# EAGLE library part LPR9201 (library custom-devices)
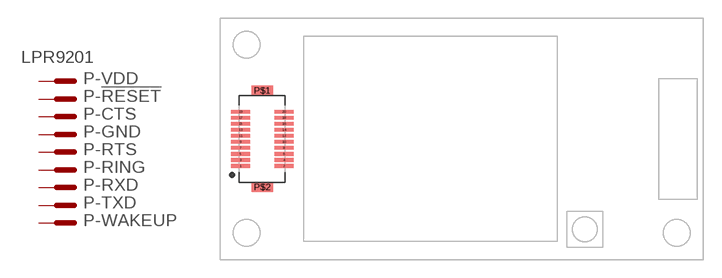
[diagram p31: symbol with the pads of LPR9201; footprint LPR9201]

Designator prefix P; gates -VDD=MV -!RESET=M -CTS=M -GND=M -RTS=M -RING=M -RXD=M -TXD=M -WAKEUP=M

## LPR9201  [LPR9201]
2  -VDD:P$1
3  -!RESET:P$1
4  -VDD:P$1
7  -CTS:P$1
8  -GND:P$1
9  -RTS:P$1
11  -RING:P$1
12  -GND:P$1
15  -GND:P$1
17  -RXD:P$1
19  -TXD:P$1
20  -WAKEUP:P$1

## Footprint LPR9201 (pad centres in mm)
smd 1.6 x 0.3: 1 -1.8,-2.25; 2 1.8,-2.25; 3 -1.8,-1.75; 4 1.8,-1.75; 5 -1.8,-1.25; 6 1.8,-1.25; 7 -1.8,-0.75; 8 1.8,-0.75; 9 -1.8,-0.25; 10 1.8,-0.25; 11 -1.8,0.25; 12 1.8,0.25; 13 -1.8,0.75; 14 1.8,0.75; 15 -1.8,1.25; 16 1.8,1.25; 17 -1.8,1.75; 18 1.8,1.75; 19 -1.8,2.25; 20 1.8,2.25
smd 1.8 x 0.8: P$1 0,4; P$2 0,-4